# Altium footprint library ic.PcbLib: 17 footprints (part 2 of 2)
Each footprint in its own frame and in the unit in brackets; x right, y up, seen from the top. Pads: shape width x height; smd on the part's side, far side on the other; paste and mask are expansions set on the pad; w line width, h text height; cw(c..) or ccw(c..) is an arc to the next point about the centre after c.
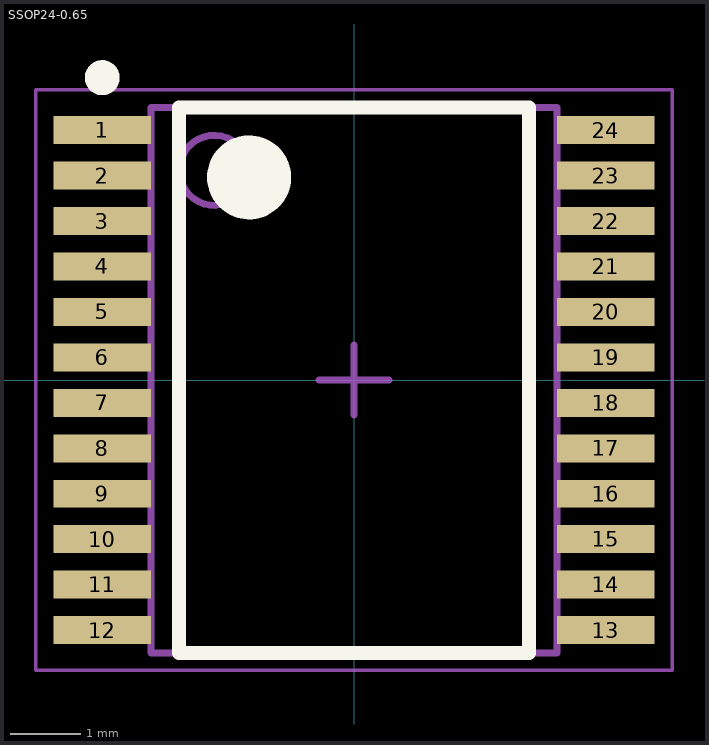
[diagram p1: the footprint, top view; thin cyan lines are the x and y axes]

## SSOP24-0.65 [mm] "TSOP, 24-Leads, Body 7.70x5.60mm, Pitch 0.65mm, IPC Medium Density"
height 1.6
pads (24):
  rect 1.4x0.4 smd: 1(-3.6,3.575) 2(-3.6,2.925) 3(-3.6,2.275) 4(-3.6,1.625) 5(-3.6,0.975) 6(-3.6,0.325) 7(-3.6,-0.325) 8(-3.6,-0.975) 9(-3.6,-1.625) 10(-3.6,-2.275) 11(-3.6,-2.925) 12(-3.6,-3.575) 13(3.6,-3.575) 14(3.6,-2.925) 15(3.6,-2.275) 16(3.6,-1.625) 17(3.6,-0.975) 18(3.6,-0.325) 19(3.6,0.325) 20(3.6,0.975) 21(3.6,1.625) 22(3.6,2.275) 23(3.6,2.925) 24(3.6,3.575)
Top Overlay:
  circle w0.25: c-3.6,4.325 r0.125
  circle w0.6: c-1.5,2.9 r0.3
  lines w0.2: -2.5,-3.9 -2.5,3.9 2.5,3.9 2.5,-3.9 -2.5,-3.9
Mechanical 13:
  circle w0.1: c-2,3 r0.5
  lines w0.1: -2.9,-3.9 -2.9,3.9 2.9,3.9 2.9,-3.9 -2.9,-3.9
Mechanical 15:
  lines w0.05: -4.55,-4.15 -4.55,4.15 4.55,4.15 4.55,-4.15 -4.55,-4.15
  lines w0.1: -0.5,0 0.5,0 ; 0,-0.5 0,0.5
3D body "TSOP65P760X160-24N.step": height 1.6, standoff 0, extent -3.8,-3.9 3.8,3.9